# Altium schematic symbol library SN74LVC1G14DRL.SchLib: 1 symbol
Pins are listed as number, name and electrical type; pins without a type are passive.

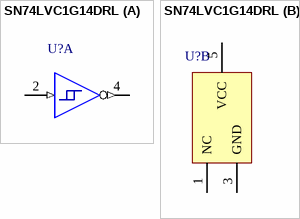
[diagram p0: symbol SN74LVC1G14DRL]

## SN74LVC1G14DRL
designator U?
part A pins: 2 A (in), 4 Y (out)
part B pins: 1 NC, 3 GND (power), 5 VCC (power)